# EAGLE library part WS2812_RGB_LED (library ModernDeviceShawn)
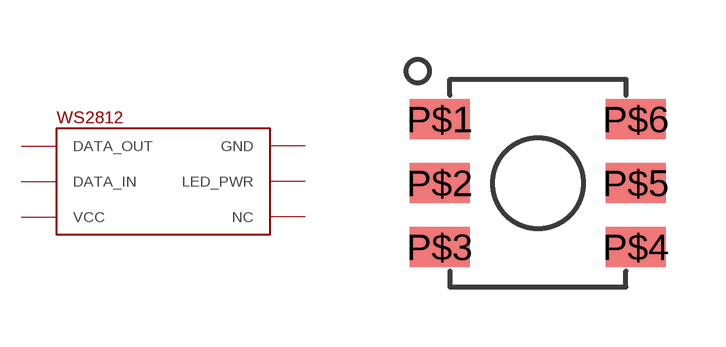
[diagram p5: symbol with the pads of WS2812_RGB_LED; footprint WS2812_RGB_LED]

Designator prefix -

## WS2812_RGB_LED  [WS2812_RGB_LED]
P$1  DATA_OUT
P$2  DATA_IN
P$3  VCC
P$4  NC
P$5  LED_PWR
P$6  GND

## Footprint WS2812_RGB_LED (pad centres in mm)
smd 1.5 x 1: P$1 -2.45,1.6; P$2 -2.45,0; P$3 -2.45,-1.6; P$4 2.45,-1.6; P$5 2.45,0; P$6 2.45,1.6